# Altium integrated library SN74LVC1G373DBVR.IntLib: 1 symbol
Pins are listed as number, name and electrical type; pins without a type are passive.

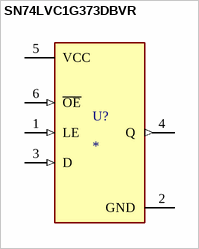
[diagram p0: symbol SN74LVC1G373DBVR]

## SN74LVC1G373DBVR
designator U?
Single D-Type Latch with 3S Output 6-SOT-23 -40 to 125; MP: SN74LVC1G373DBVR; Package: None; Price: None; Value: *; Availability: Unavailable
footprint SOT95P280X145-6N
pins: 1 LE (in), 2 GND (power), 3 D (in), 4 Q (out), 5 VCC (power), 6 ~{OE} (in)